# EAGLE library part TPS2H160AQPWPRQ1 (library TPS2H160AQPWPRQ1)
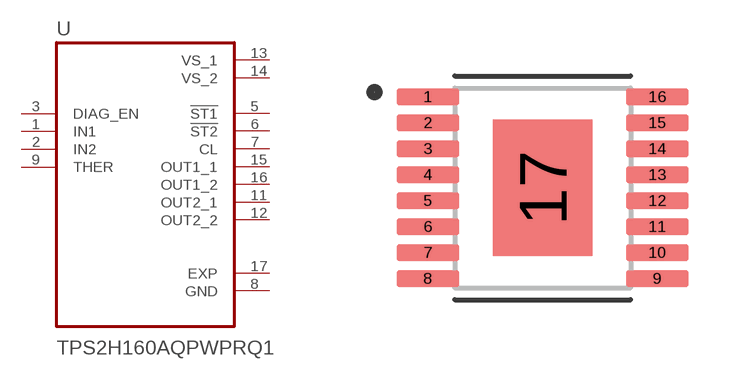
[diagram p0: symbol with the pads of SOP65P640X120-17N; footprint SOP65P640X120-17N]

Designator prefix U

## TPS2H160AQPWPRQ1  [SOP65P640X120-17N]
1  IN1  in
2  IN2  in
3  DIAG_EN  in
5  !ST1  out
6  !ST2  out
7  CL  out
8  GND  pwr
9  THER  in
11  OUT2_1  out
12  OUT2_2  out
13  VS_1  pwr
14  VS_2  pwr
15  OUT1_1  out
16  OUT1_2  out
17  EXP  pwr

## Footprint SOP65P640X120-17N (pad centres in mm)
smd 1.57 x 0.41: 1 -2.87,2.275; 2 -2.87,1.625; 3 -2.87,0.975; 4 -2.87,0.325; 5 -2.87,-0.325; 6 -2.87,-0.975; 7 -2.87,-1.625; 8 -2.87,-2.275; 9 2.87,-2.275; 10 2.87,-1.625; 11 2.87,-0.975; 12 2.87,-0.325; 13 2.87,0.325; 14 2.87,0.975; 15 2.87,1.625; 16 2.87,2.275
smd 2.48 x 3.4: 17 0,0